# Altium footprint library PCB - CONNECTOR - MOLEX - MOLEX 0559321210.PcbLib: 1 footprints
Each footprint in its own frame and in the unit in brackets; x right, y up, seen from the top. Pads: shape width x height; smd on the part's side, far side on the other; paste and mask are expansions set on the pad; w line width, h text height; cw(c..) or ccw(c..) is an arc to the next point about the centre after c.
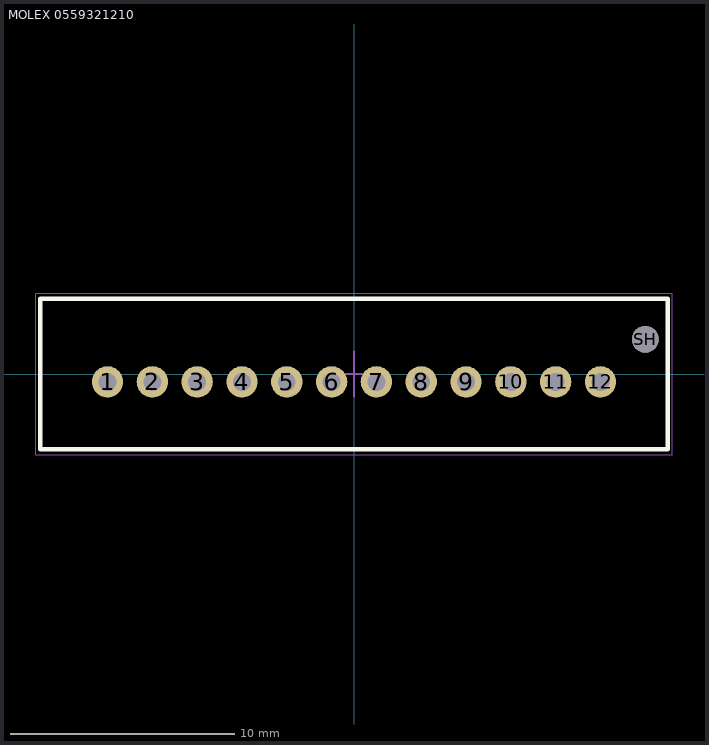
[diagram p0: the footprint, top view; thin cyan lines are the x and y axes]

## MOLEX 0559321210 [mm] "Connector Header Through Hole 12 position, 2mm Pitch, 28x6.7mm Body"
height 9.75
pads (13):
  round 1.4 hole 0.8: 1(-11,-0.35) 2(-9,-0.35) 3(-7,-0.35) 4(-5,-0.35) 5(-3,-0.35) 6(-1,-0.35) 7(1,-0.35) 8(3,-0.35) 9(5,-0.35) 10(7,-0.35) 11(9,-0.35) 12(11,-0.35)
  round 1.2 hole 1.2: SH(13,1.55)
Top Overlay:
  lines w0.2: -14,-3.35 14,-3.35 14,3.35 -14,3.35 -14,-3.35
Mechanical 13:
  lines w0.1: -14,-3.35 -14,3.35 14,3.35 14,-3.35 -14,-3.35
Mechanical 15 (Mech15):
  lines w0.05: -14.2,-3.6 -14.2,3.6 14.2,3.6 14.2,-3.6 -14.2,-3.6
  lines w0.1: -1,0 0,0 ; 0,-1 0,0 ; 0,1 0,0 ; 1,0 0,0
3D body: height 9.75, standoff -3.2, extent -14,-3.35 14,3.35